# Altium footprint library 436500501.PcbLib: 1 footprints
Each footprint in its own frame and in the unit in brackets; x right, y up, seen from the top. Pads: shape width x height; smd on the part's side, far side on the other; paste and mask are expansions set on the pad; w line width, h text height; cw(c..) or ccw(c..) is an arc to the next point about the centre after c.
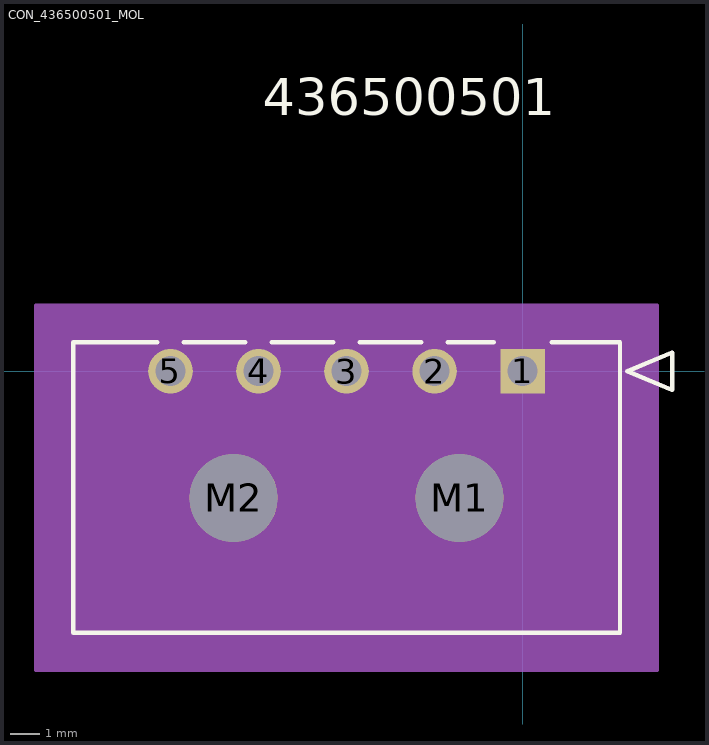
[diagram p0: the footprint, top view; thin cyan lines are the x and y axes]

## CON_436500501_MOL [mm]
pads (7):
  rect 1.52x1.52 hole 1.02 mask+0.076: 1(0,0)
  round 1.52 hole 1.02 mask+0.076: 2(-3,0) 3(-6,0) 4(-9,0) 5(-12,0)
  round 3 hole 3 unplated mask+0.076: M1(-2.15,-4.32) M2(-9.85,-4.32)
Top Overlay:
  lines w0.152: -12.448,0.98 -15.32,0.98 -15.32,-8.92 3.32,-8.92 3.32,0.98 0.989,0.98 ; -11.552,0.98 -9.448,0.98 ; -8.552,0.98 -6.448,0.98 ; -5.552,0.98 -3.448,0.98 ; -2.552,0.98 -0.989,0.98 ; 3.574,0 5.098,0.635 5.098,-0.635 3.574,0
  text "436500501" at -8.857,8.73 h1.27
Mechanical 3:
  text "PTH_DRILL_SIZE:_1.02_MM,_TOL:_+0.05/-0.05" at -19.017,-14.13 h1.27
  text "NPTH_DRILL_SIZE:_3.0_MM,_TOL:_+0.05/-0.05" at -19.017,-16.67 h1.27
Mechanical 5:
  region: -15.701,1.361 3.701,1.361 3.701,-9.301 -15.701,-9.301
Mechanical 10:
  text "PTH_DRILL_SIZE:_1.02_MM,_TOL:_+0.05/-0.05" at -19.017,-14.13 h1.27
  text "NPTH_DRILL_SIZE:_3.0_MM,_TOL:_+0.05/-0.05" at -19.017,-16.67 h1.27
Mechanical 13:
  lines w0.127: -15.32,-8.92 3.32,-8.92 3.32,0.98 -15.32,0.98 -15.32,-8.92 ; 3.574,0 5.098,0.635 5.098,-0.635 3.574,0
  text "436500501" at -8.857,8.73 h1.27
Mechanical 15:
  region: 4.59,2.25 -16.59,2.25 -16.59,-10.19 4.59,-10.19
  lines w0.127: -16.59,-10.19 -16.59,2.25 4.59,2.25 4.59,-10.19 -16.59,-10.19
3D body: height 0.25, standoff 0, extent 0,0 0.254,0.254